# Altium schematic symbol library Transformer,SMPS,Asymmetric,1.3_1,3125V,SMD.Schlib: 1 symbol
Pins are listed as number, name and electrical type; pins without a type are passive.

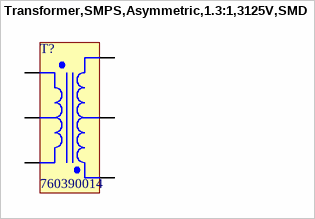
[diagram p0: symbol Transformer,SMPS,Asymmetric,1.3:1,3125V,SMD]

## Transformer,SMPS,Asymmetric,1.3:1,3125V,SMD
designator T?, comment 760390014
Forward, Push-Pull Converters For For DC/DC Converters SMPS Transformer 3125Vrms Isolation 10kHz Surface Mount
pins: 1, 2, 3, 4, 5, 6